# EAGLE library part AT32UC3A (library kblom)
High Performance, Low Power AVR®32 UC 32-Bit Microcontroller source <http://www.atmel.com/dyn/products/product_docs.asp?category_id=163&family_id=607&subfamily_id=2138&part_id=4122> mcu
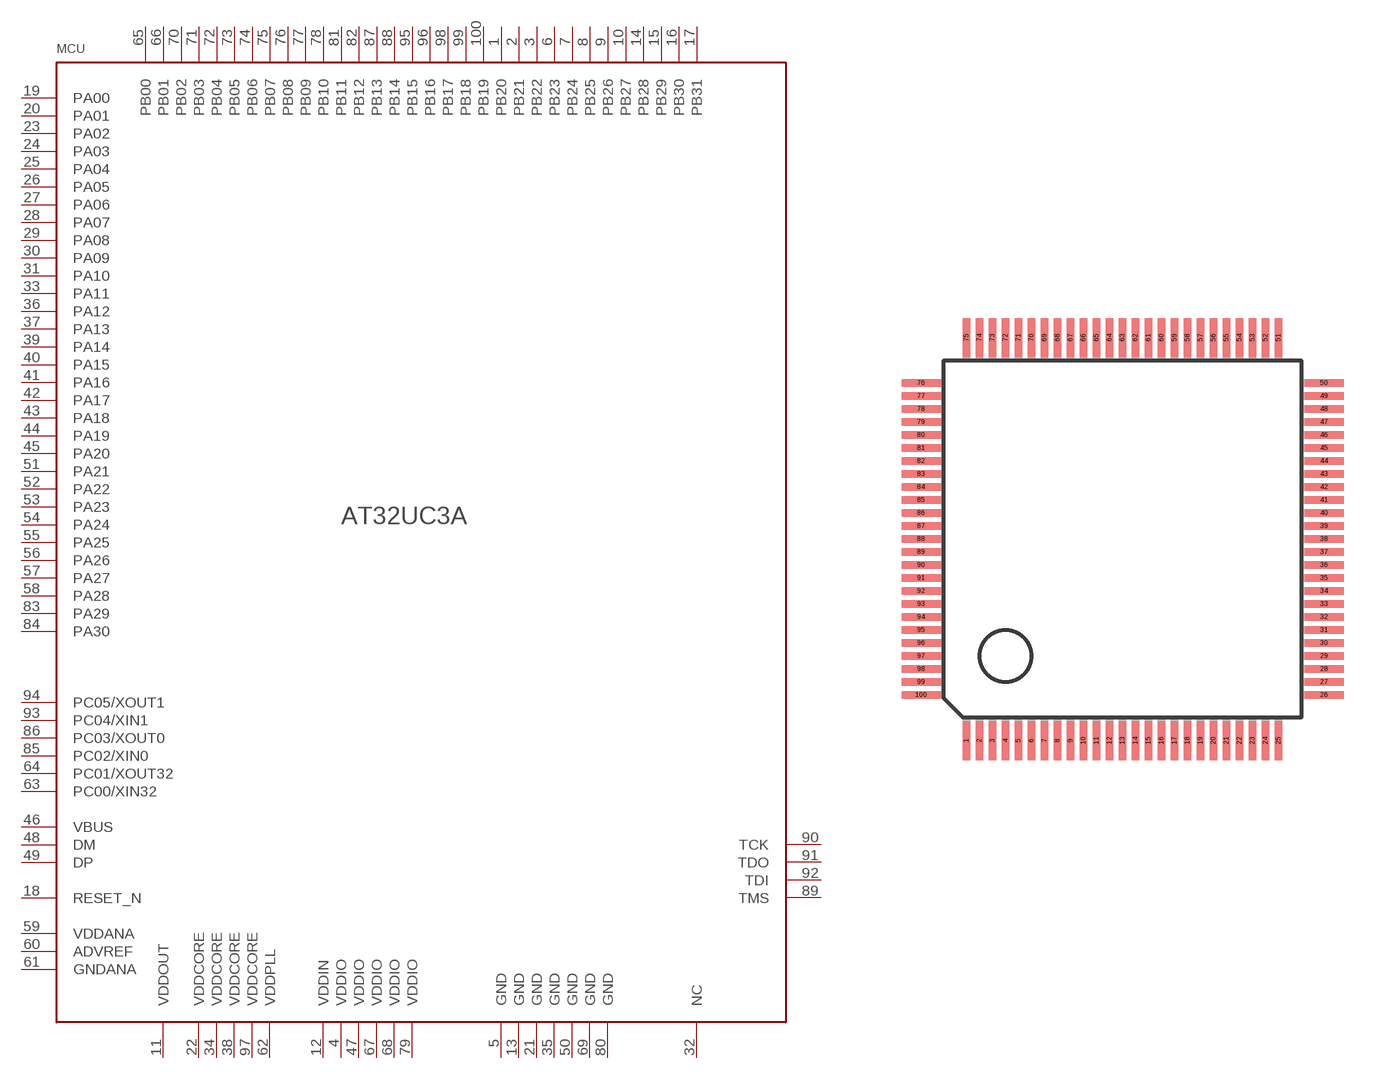
[diagram p7: symbol with the pads of TQFP100; footprint TQFP100]

Designator prefix MCU

## AT32UC3A1128 (FARNELL: 1841636), AT32UC3A1256 (FARNELL: 1841637), AT32UC3A1512 (FARNELL: 1712566)  [TQFP100]
1  PB20
2  PB21
3  PB22
4  VDDIO  sup
5  GND  pwr
6  PB23
7  PB24
8  PB25
9  PB26
10  PB27
11  VDDOUT
12  VDDIN  pwr
13  GND  pwr
14  PB28
15  PB29
16  PB30
17  PB31
18  RESET_N
19  PA00
20  PA01
21  GND  pwr
22  VDDCORE
23  PA02
24  PA03
25  PA04
26  PA05
27  PA06
28  PA07
29  PA08
30  PA09
31  PA10
32  NC
33  PA11
34  VDDCORE
35  GND
36  PA12
37  PA13
38  VDDCORE
39  PA14
40  PA15
41  PA16
42  PA17
43  PA18
44  PA19
45  PA20
46  VBUS
47  VDDIO  sup
48  DM
49  DP
50  GND
51  PA21
52  PA22
53  PA23
54  PA24
55  PA25
56  PA26
57  PA27
58  PA28
59  VDDANA
60  ADVREF
61  GNDANA  pwr
62  VDDPLL
63  PC00/XIN32
64  PC01/XOUT32
65  PB00
66  PB01
67  VDDIO  sup
68  VDDIO  sup
69  GND  pwr
70  PB02
71  PB03
72  PB04
73  PB05
74  PB06
75  PB07
76  PB08
77  PB09
78  PB10
79  VDDIO  sup
80  GND  pwr
81  PB11
82  PB12
83  PA29
84  PA30
85  PC02/XIN0
86  PC03/XOUT0
87  PB13
88  PB14
89  TMS
90  TCK
91  TDO
92  TDI
93  PC04/XIN1
94  PC05/XOUT1
95  PB15
96  PB16
97  VDDCORE
98  PB17
99  PB18
100  PB19

## Footprint TQFP100 (pad centres in mm)
Thin Quad Flat Pack
smd 0.27 x 1.5: 1 -6,-7.75; 2 -5.5,-7.75; 3 -5,-7.75; 4 -4.5,-7.75; 5 -4,-7.75; 6 -3.5,-7.75; 7 -3,-7.75; 8 -2.5,-7.75; 9 -2,-7.75; 10 -1.5,-7.75; 11 -1,-7.75; 12 -0.5,-7.75; 13 0,-7.75; 14 0.5,-7.75; 15 1,-7.75; 16 1.5,-7.75; 17 2,-7.75; 18 2.5,-7.75; 19 3,-7.75; 20 3.5,-7.75; 21 4,-7.75; 22 4.5,-7.75; 23 5,-7.75; 24 5.5,-7.75; 25 6,-7.75; 51 6,7.75; 52 5.5,7.75; 53 5,7.75; 54 4.5,7.75; 55 4,7.75; 56 3.5,7.75; 57 3,7.75; 58 2.5,7.75; 59 2,7.75; 60 1.5,7.75; 61 1,7.75; 62 0.5,7.75; 63 0,7.75; 64 -0.5,7.75; 65 -1,7.75; 66 -1.5,7.75; 67 -2,7.75; 68 -2.5,7.75; 69 -3,7.75; 70 -3.5,7.75; 71 -4,7.75; 72 -4.5,7.75; 73 -5,7.75; 74 -5.5,7.75; 75 -6,7.75
smd 1.5 x 0.27: 26 7.75,-6; 27 7.75,-5.5; 28 7.75,-5; 29 7.75,-4.5; 30 7.75,-4; 31 7.75,-3.5; 32 7.75,-3; 33 7.75,-2.5; 34 7.75,-2; 35 7.75,-1.5; 36 7.75,-1; 37 7.75,-0.5; 38 7.75,0; 39 7.75,0.5; 40 7.75,1; 41 7.75,1.5; 42 7.75,2; 43 7.75,2.5; 44 7.75,3; 45 7.75,3.5; 46 7.75,4; 47 7.75,4.5; 48 7.75,5; 49 7.75,5.5; 50 7.75,6; 76 -7.75,6; 77 -7.75,5.5; 78 -7.75,5; 79 -7.75,4.5; 80 -7.75,4; 81 -7.75,3.5; 82 -7.75,3; 83 -7.75,2.5; 84 -7.75,2; 85 -7.75,1.5; 86 -7.75,1; 87 -7.75,0.5; 88 -7.75,0; 89 -7.75,-0.5; 90 -7.75,-1; 91 -7.75,-1.5; 92 -7.75,-2; 93 -7.75,-2.5; 94 -7.75,-3; 95 -7.75,-3.5; 96 -7.75,-4; 97 -7.75,-4.5; 98 -7.75,-5; 99 -7.75,-5.5; 100 -7.75,-6